# EAGLE library part MAX9724AEUD+ (library max9724)
MAX9724 Stereo Headphone Amplifier
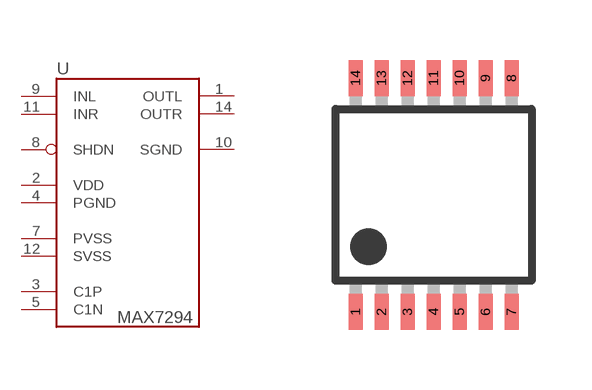
[diagram p0: symbol with the pads of TSSOP14; footprint TSSOP14]

Designator prefix -

## MAX9724AEUD+  [TSSOP14]
1  OUTL  out
2  VDD  pwr
3  C1P
4  PGND  sup
5  C1N
7  PVSS  out
8  SHDN  in
9  INL  in
10  SGND  sup
11  INR  in
12  SVSS  pwr
14  OUTR  out

## Footprint TSSOP14 (pad centres in mm)
plastic thin shrink small outline package; 14 leads; body width 4.4 mm SOT402-1 Source: http://www.nxp.com/documents/data_sheet/74ABT125.pdf
smd 0.35 x 0.9: 1 -1.95,-2.925; 2 -1.3,-2.925; 3 -0.65,-2.925; 4 0,-2.925; 5 0.65,-2.925; 6 1.3,-2.925; 7 1.95,-2.925; 8 1.95,2.925; 9 1.3,2.925; 10 0.65,2.925; 11 0,2.925; 12 -0.65,2.925; 13 -1.3,2.925; 14 -1.95,2.925